# Altium footprint library Udemy_Library.PcbLib: 38 footprints (part 2 of 3)
Each footprint in its own frame and in the unit in brackets; x right, y up, seen from the top. Pads: shape width x height; smd on the part's side, far side on the other; paste and mask are expansions set on the pad; w line width, h text height; cw(c..) or ccw(c..) is an arc to the next point about the centre after c.
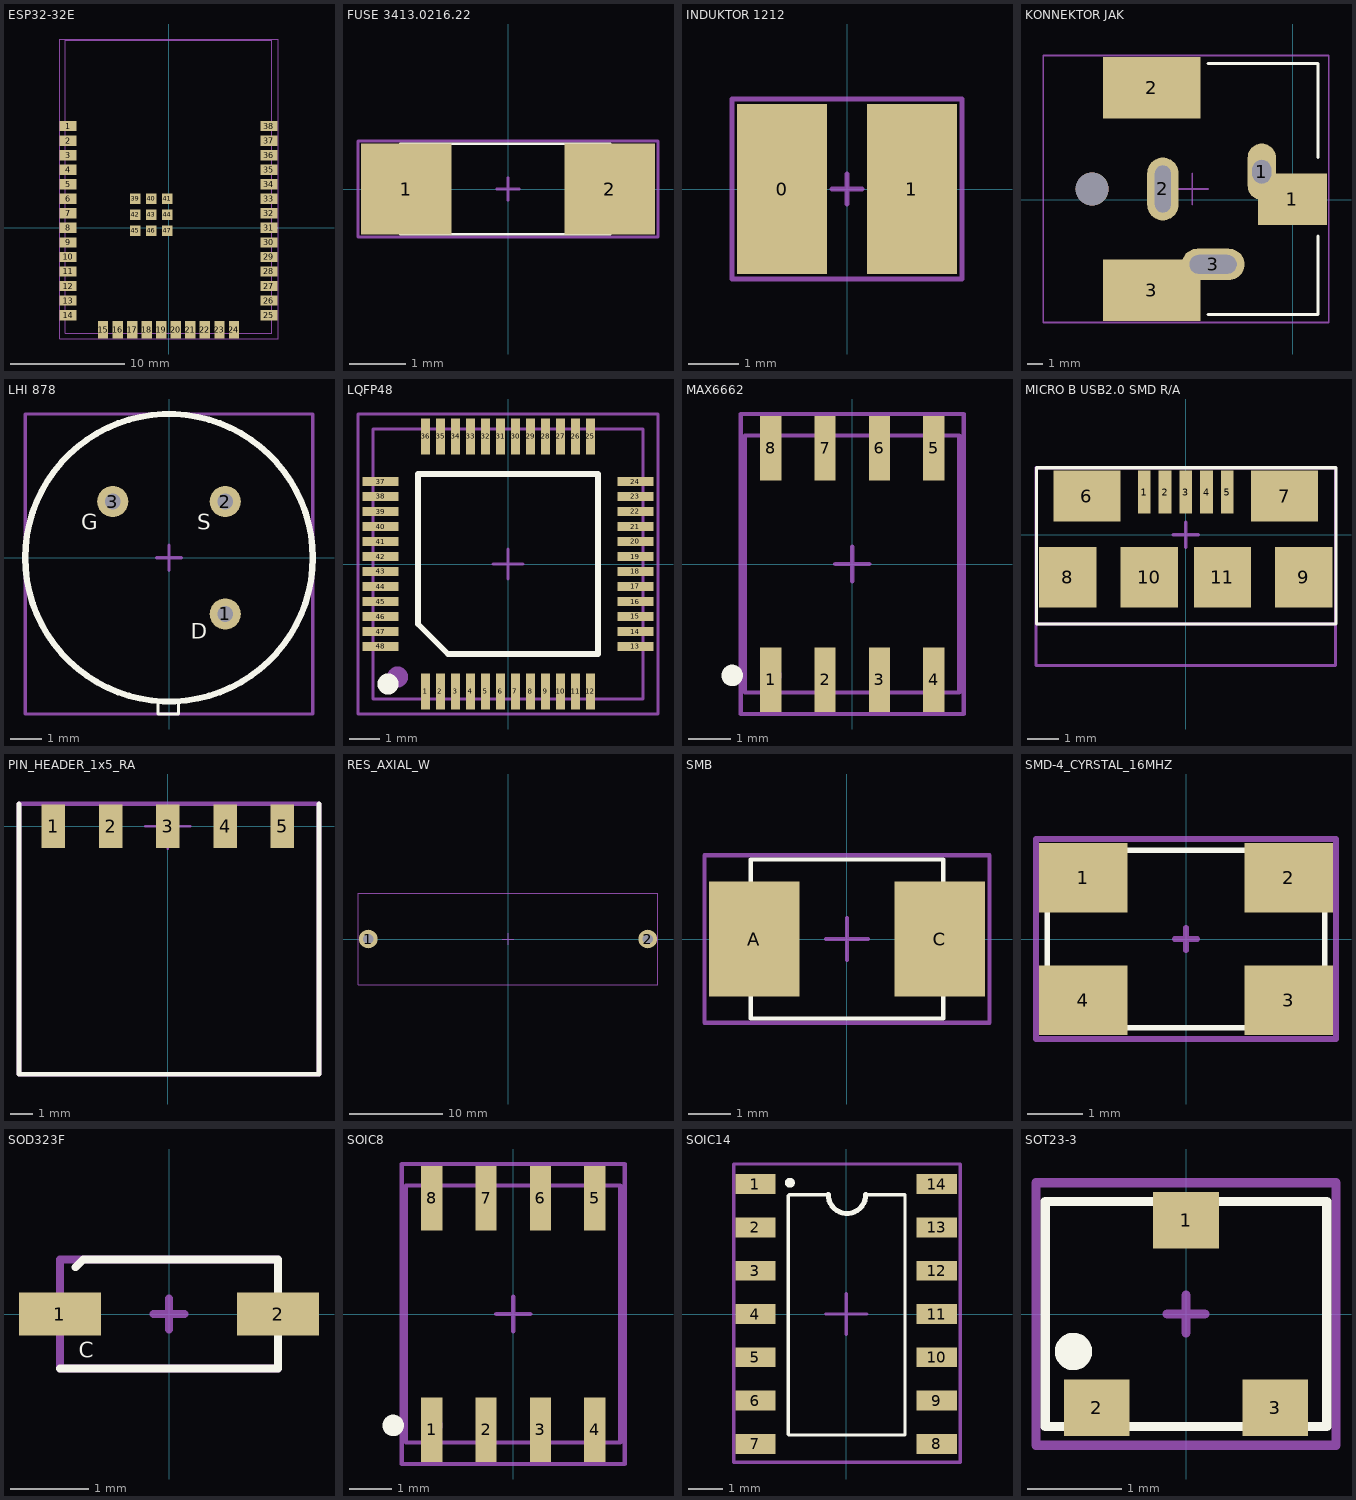
[diagram p1: the footprints below, top view; thin cyan lines are the x and y axes]

## ESP32-32E [mm]
pads (47):
  rect 1.5x0.9 smd mask+0.05: 1(-8.765,8.895) 2(-8.765,7.625) 3(-8.765,6.355) 4(-8.765,5.085) 5(-8.765,3.815) 6(-8.765,2.545) 7(-8.765,1.275) 8(-8.765,0.005) 9(-8.765,-1.265) 10(-8.765,-2.535) 11(-8.765,-3.805) 12(-8.765,-5.075) 13(-8.765,-6.345) 14(-8.765,-7.615) 25(8.765,-7.615) 26(8.765,-6.345) 27(8.765,-5.075) 28(8.765,-3.805) 29(8.765,-2.535) 30(8.765,-1.265) 31(8.765,0.005) 32(8.765,1.275) 33(8.765,2.545) 34(8.765,3.815) 35(8.765,5.085) 36(8.765,6.355) 37(8.765,7.625) 38(8.765,8.895)
  rect 0.9x1.5 smd mask+0.05: 15(-5.715,-8.895) 16(-4.445,-8.895) 17(-3.175,-8.895) 18(-1.905,-8.895) 19(-0.635,-8.895) 20(0.635,-8.895) 21(1.905,-8.895) 22(3.175,-8.895) 23(4.445,-8.895) 24(5.715,-8.895)
  rect 0.9x0.9 smd mask+0.05: 39(-2.918,2.545) 40(-1.518,2.545) 41(-0.118,2.545) 42(-2.918,1.145) 43(-1.518,1.145) 44(-0.118,1.145) 45(-2.918,-0.255) 46(-1.518,-0.255) 47(-0.118,-0.255)
Top 3D Body:
  lines w0.1: -9,-9.2 9,-9.2 9,16.4 -9,16.4 -9,-9.1 -9,-9.2
Top Component Center:
  lines w0.1: 9.6,16.5 9.6,-9.7 -9.5,-9.7 -9.5,16.5 9.6,16.5 ; 9.6,16.5 9.6,16.5
Top Designator:
  lines w0.1: 9.6,16.5 9.6,16.5 ; 9.6,16.5 9.6,-9.7 -9.5,-9.7 -9.5,16.5 9.6,16.5
  text "d.Designator" at -6.8,1.708 h1.52
3D body "ESP32-WROOM-32E.step": height 3.45, standoff 0, extent -9,-9.15 9,16.35

## FUSE 3413.0216.22 [mm]
pads (2):
  rect 1.6x1.6 smd mask+0.05: 1(-1.8,0) 2(1.8,0)
Top Overlay:
  lines w0.05: -1.9,-0.8 -1.9,0.8 1.8,0.8 1.8,-0.8 -1.9,-0.8
Top Component Center:
  lines w0.05: -0.2,0 0.2,0 ; 0,-0.2 0,0.2 ; -2.65,-0.85 -2.65,0.85 2.65,0.85 2.65,-0.85 -2.65,-0.85
Top Designator:
  lines w0.05: -2.65,-0.85 -2.65,0.85 2.65,0.85 2.65,-0.85 -2.65,-0.85
3D body "FUS1206_24N_SCH.step": height 0.61, standoff 0, extent -1.6,-0.8 1.6,0.8

## INDUKTOR 1212 [mm]
pads (2):
  rect 1.8x3.4 smd mask+0.05: 0(-1.3,0) 1(1.3,0)
Top Component Center:
  lines w0.1: -0.3,0 0.3,0 ; 0,-0.3 0,0.3 ; -2.3,-1.8 -2.3,1.8 2.3,1.8 2.3,-1.8 -2.3,-1.8
Top Designator:
  lines w0.1: -2.3,-1.8 -2.3,1.8 2.3,1.8 2.3,-1.8 -2.3,-1.8
  text "d.Designator" at -0.9,-0.367 h0.4
3D body "78438335010_Download_STP_WE-MAIA-3015_rev1.stp": height 1.25, standoff 0.05, extent -1.5,-1.5 1.5,1.5

## KONNEKTOR JAK [mm]
pads (7):
  oval 1.8x3.6 hole 1.2 slot 1.5 at 90 deg: 1(-1.975,1.8)
  rect 4.4x3.3 smd: 1(-0.025,0.05)
  rect 6.2x3.9 smd: 2(-8.975,7.15) 3(-8.975,-5.75)
  oval 2x4 hole 1 slot 3 at 90 deg: 2(-8.275,0.7)
  oval 4x2 hole 1.2 slot 3 at 0 deg: 3(-5.075,-4.1)
  round 2.1 hole 2.1 unplated: ""(-12.775,0.7)
Top Overlay:
  lines w0.2: -5.4,-7.3 1.6,-7.3 1.6,-2.3 ; -5.4,8.7 1.6,8.7 1.6,2.7
Top Component Center:
  lines w0.1: -7.4,0.7 -5.4,0.7 ; -6.4,-0.3 -6.4,1.7 ; -15.9,-7.8 -15.9,9.2 -12.4,9.2 2.3,9.2 2.3,-7.8 -15.9,-7.8
Top Designator:
  lines w0.1: -15.9,-7.8 -15.9,9.2 -12.4,9.2 2.3,9.2 2.3,-7.8 -15.9,-7.8
  text "'.Designator'" at -12.146,0.462 h1.52
3D body "CUI_DEVICES_PJ-037AH-SMT-TR.step": height 11.1, standoff -3.3, extent -15.875,-7.05 1.225,8.15

## LHI 878 [mm]
pads (3):
  round 1 hole 0.5 mask+0.05: 1(1.8,-1.8) 2(1.8,1.8) 3(-1.8,1.8)
Top Overlay:
  circle w0.2: c0,0 r4.6
  lines w0.1: -0.35,-4.55 -0.35,-4.75 -0.35,-5 0.3,-5 0.3,-4.6
  text "G" at -2.8,0.9 h0.5
  text "S" at 0.9,0.9 h0.5
  text "D" at 0.7,-2.6 h0.5
Top Component Center:
  lines w0.1: -0.4,0 0.4,0 ; 0,-0.4 0,0.4 ; -4.6,-5 -4.6,4.6 4.6,4.6 4.6,-5 -4.6,-5
Top Designator:
  lines w0.1: -4.6,-5 4.6,-5 4.6,4.6 -4.6,4.6 -4.6,-5
3D body "LHI878.step": height 4.3, standoff -2.7, extent -4.6,-5.029 4.6,4.6

## LQFP48 [mm] "7 x 7 mm"
pads (48):
  rect 0.3x1.2 smd mask+0.05: 1(-2.75,-4.25) 2(-2.25,-4.25) 3(-1.75,-4.25) 4(-1.25,-4.25) 5(-0.75,-4.25) 6(-0.25,-4.25) 7(0.25,-4.25) 8(0.75,-4.25) 9(1.25,-4.25) 10(1.75,-4.25) 11(2.25,-4.25) 12(2.75,-4.25) 25(2.75,4.25) 26(2.25,4.25) 27(1.75,4.25) 28(1.25,4.25) 29(0.75,4.25) 30(0.25,4.25) 31(-0.25,4.25) 32(-0.75,4.25) 33(-1.25,4.25) 34(-1.75,4.25) 35(-2.25,4.25) 36(-2.75,4.25)
  rect 1.2x0.3 smd mask+0.05: 13(4.25,-2.75) 14(4.25,-2.25) 15(4.25,-1.75) 16(4.25,-1.25) 17(4.25,-0.75) 18(4.25,-0.25) 19(4.25,0.25) 20(4.25,0.75) 21(4.25,1.25) 22(4.25,1.75) 23(4.25,2.25) 24(4.25,2.75) 37(-4.25,2.75) 38(-4.25,2.25) 39(-4.25,1.75) 40(-4.25,1.25) 41(-4.25,0.75) 42(-4.25,0.25) 43(-4.25,-0.25) 44(-4.25,-0.75) 45(-4.25,-1.25) 46(-4.25,-1.75) 47(-4.25,-2.25) 48(-4.25,-2.75)
Top Overlay:
  circle w0.5: c-4,-4 r0.1
  lines w0.2: -3,-2 -2,-3 3,-3 3,3 -3,3 -3,-2
Top 3D Body:
  circle w0.5: c-3.681,-3.766 r0.1
  lines w0.1: -4.5,-4.5 4.5,-4.5 4.5,4.5 -4.5,4.5 -4.5,-4.5
Top Component Center:
  lines w0.1: -0.5,0 0.5,0 ; 0,-0.5 0,0.5 ; -5,-5 5,-5 5,5 -5,5 -5,-5
Top Designator:
  text ".Designator" at -1.118,-0.508 h1.52
3D body "User Library-P-LQFP48-7x7-0_50.step": height 1.43, standoff -0.02, extent -4.5,-4.5 4.5,4.5

## MAX6662 [mm]
pads (8):
  rect 0.5x1.5 smd mask+0.05: 1(-1.905,-2.7) 2(-0.635,-2.7) 3(0.635,-2.7) 4(1.905,-2.7) 5(1.905,2.7) 6(0.635,2.7) 7(-0.635,2.7) 8(-1.905,2.7)
Top Overlay:
  circle w0.3: c-2.8,-2.6 r0.1
Top 3D Body:
  circle w0.3: c-1.9,-2.6 r0.1
  lines w0.1: -2.5,-3 -2.5,3 2.5,3 2.5,-3 -2.5,-3
Top Component Center:
  lines w0.1: -0.4,0 0.4,0 ; 0,-0.4 0,0.4 ; -2.6,-3.5 -2.6,3.5 ; -2.6,-3.5 -2.6,3.5 ; -2.6,-3.5 2.6,-3.5 ; -2.6,-3.5 2.6,-3.5 ; -2.6,3.5 2.6,3.5 ; -2.6,3.5 2.6,3.5 ; 2.6,-3.5 2.6,3.5 ; 2.6,-3.5 2.6,3.5
Top Designator:
  lines w0.1: -2.6,-3.5 -2.6,3.5 ; -2.6,-3.5 2.6,-3.5 ; -2.6,-3.5 -2.6,3.5 ; -2.6,-3.5 2.6,-3.5 ; -2.6,3.5 2.6,3.5 ; -2.6,3.5 2.6,3.5 ; 2.6,-3.5 2.6,3.5 ; 2.6,-3.5 2.6,3.5
  text "d.Designator" at -2.2,-0.233 h0.5
3D body "SOIC-8-1.step": height 1.75, standoff 0, extent -2.45,-3 2.45,3

## MICRO B USB2.0 SMD R/A [mm]
pads (11):
  rect 0.4x1.35 smd mask+0.05: 1(-1.3,1.338) 2(-0.65,1.338) 3(0,1.338) 4(0.65,1.338) 5(1.3,1.338)
  rect 2.1x1.6 smd mask+0.05: 6(-3.1,1.213) 7(3.1,1.213)
  rect 1.8x1.9 smd mask+0.05: 8(-3.7,-1.338) 9(3.7,-1.338) 10(-1.15,-1.338) 11(1.15,-1.338)
Top Overlay:
  lines w0.1: -4.687,-2.8 -4.687,2.1 4.713,2.1 4.713,-2.8 1.063,-2.8 -1.037,-2.8 -1.625,-2.8 -2.8,-2.8 -4.687,-2.8
Top Component Center:
  lines w0.1: -0.4,0 0.4,0 ; 0,-0.4 0,0.4 ; -4.7,-4.1 4.7,-4.1 4.7,2.1 -4.7,2.1 -4.7,-4.1
Top Designator:
  lines w0.1: -4.7,-2.8 -4.7,2.1 4.7,2.1 4.7,-2.8 1.05,-2.8 -1.05,-2.8 -1.637,-2.8 -2.813,-2.8 -4.7,-2.8
  text "d.Designator" at 1,0.1 h0.3
3D body "usb_b_10118192-0001LF.step": height 2.7, standoff -0.09, extent -3.955,-4.059 3.956,1.608

## PIN_HEADER_1x5_RA [mm]
pads (5):
  rect 1.04x1.91 smd mask+0.05: 1(-5.08,0) 2(-2.54,0) 3(0,0) 4(2.54,0) 5(5.08,0)
Top Overlay:
  lines w0.2: -6.6,1 -6.6,-11 6.7,-11 6.7,1
Top Component Center:
  lines w0.1: -1,0 1,0 ; 0,-1 0,1 0.05,1
  lines w0.2: -6.6,-11 -6.6,1 6.7,1 6.7,-11 -6.6,-11
Top Designator:
  lines w0.2: -6.6,-11 -6.6,1 6.7,1 6.7,-11 -6.6,-11
  text "d.Designator" at -3.6,-5.067 h0.7
3D body "SMH-105-02-X-S.step": height 2.51, standoff 0.09, extent -6.604,-11.009 6.604,0.929

## RES_AXIAL_W [mm]
pads (2):
  round 2 hole 1.1 mask+0.05: 1(-15,0) 2(15,0)
Top Component Center:
  lines w0.1: -0.6,0 0.6,0 ; 0,-0.6 0,0.6 0,0 ; -16.1,-4.9 -16.1,4.9 16.1,4.9 16.1,-4.9 8.075,-4.9 8.025,-4.9 -8.025,-4.9 -16.1,-4.9
Top Designator:
  lines w0.1: -16.1,-4.9 -8.025,-4.9 8.025,-4.9 8.075,-4.9 16.1,-4.9 16.1,4.9 -16.1,4.9 -16.1,-4.9
  text "d.Designator" at -5.8,-0.592 h1.52
3D body: height 9.65, standoff 0, extent -11,-4.825 11,4.825
3D body: height 5, standoff -4, extent 14.603,-0.399 15.4,0.399
3D body: height 5, standoff -4, extent -15.397,-0.399 -14.6,0.399
3D body: height 5.4, standoff 4.6, extent -15.25,-0.4 -9.25,0.398
3D body: height 5.4, standoff 4.6, extent 9.25,-0.4 15.25,0.397

## SMB [mm]
pads (2):
  rect 2.159x2.743 smd mask+0.05: A(-2.21,0) C(2.21,0)
Top Overlay:
  lines w0.1: -2.3,-1.9 -2.3,1.9 2.3,1.9 2.3,-1.9 -2.3,-1.9
Top Component Center:
  lines w0.1: -0.5,0 0.5,0 ; 0,-0.5 0,0.5 ; -3.4,-2 3.4,-2 3.4,2 -3.4,2 -3.4,-2
Top Designator:
  lines w0.1: -3.4,-2 -3.4,2 3.4,2 3.4,-2 -3.4,-2
  text "d.Designator" at -1.5,-0.367 h0.4
3D body "SMB_ONS.step": height 2.51, standoff 0.05, extent -2.286,-1.905 2.286,1.905

## SMD-4_CYRSTAL_16MHZ [mm]
pads (4):
  rect 1.6x1.25 smd mask+0.05: 1(-1.85,1.1) 2(1.85,1.1) 3(1.85,-1.1) 4(-1.85,-1.1)
Top Overlay:
  lines w0.1: -2.5,-1.6 2.5,-1.6 2.5,1.6 -2.5,1.6 -2.5,-1.6
Top Component Center:
  lines w0.1: -0.2,0 0.2,0 ; 0,-0.2 0,0.2 ; -2.7,-1.8 2.7,-1.8 2.7,1.8 -2.7,1.8 -2.7,-1.8
Top Designator:
  lines w0.1: -2.7,-1.8 2.7,-1.8 2.7,1.8 -2.7,1.8 -2.7,-1.8
  text "d.Designator" at -1.2,0.167 h0.5
3D body "cyrstal_SMD-4_ECS-160-20-30B-TR.STEP": height 0.85, standoff 0, extent -2.5,-1.6 2.5,1.6

## SOD323F [mm]
pads (2):
  rect 1.05x0.55 smd mask+0.05: 1(-1.4,0) 2(1.4,0)
Top Overlay:
  lines w0.1: -1.4,-0.7 1.4,-0.7 1.4,0.7 -1.1,0.7 -1.2,0.6
  text "C" at -1.16,-0.56 h0.2
Top Component Center:
  lines w0.1: -0.2,0 0.2,0 ; 0,-0.2 0,0.2 ; -1.4,-0.7 -1.4,0.7 1.4,0.7 1.4,-0.7 -1.4,-0.7
Top Designator:
  lines w0.1: -1.4,-0.7 -1.4,0.7 1.4,0.7 1.4,-0.7 -1.4,-0.7
  text "d.Designator" at -0.6,-0.2 h0.3
3D body "SOD-323F_ONS.step": height 1, standoff 0, extent -1.346,-0.7 1.346,0.646

## SOIC8 [mm]
pads (8):
  rect 0.5x1.5 smd mask+0.05: 1(-1.905,-2.7) 2(-0.635,-2.7) 3(0.635,-2.7) 4(1.905,-2.7) 5(1.905,2.7) 6(0.635,2.7) 7(-0.635,2.7) 8(-1.905,2.7)
Top Overlay:
  circle w0.3: c-2.8,-2.6 r0.1
Top 3D Body:
  circle w0.3: c-1.9,-2.6 r0.1
  lines w0.1: -2.5,-3 2.5,-3 2.5,3 -2.5,3 -2.5,-3
Top Component Center:
  lines w0.1: -0.4,0 0.4,0 ; 0,-0.4 0,0.4 ; -2.6,-3.5 2.6,-3.5 ; -2.6,-3.5 2.6,-3.5 ; -2.6,-3.5 -2.6,3.5 ; -2.6,-3.5 -2.6,3.5 ; -2.6,3.5 2.6,3.5 ; -2.6,3.5 2.6,3.5 ; 2.6,-3.5 2.6,3.5 ; 2.6,-3.5 2.6,3.5
Top Designator:
  lines w0.1: -2.6,-3.5 2.6,-3.5 ; -2.6,-3.5 -2.6,3.5 ; -2.6,-3.5 2.6,-3.5 ; -2.6,-3.5 -2.6,3.5 ; -2.6,3.5 2.6,3.5 ; -2.6,3.5 2.6,3.5 ; 2.6,-3.5 2.6,3.5 ; 2.6,-3.5 2.6,3.5
  text "d.Designator" at -2.2,-0.233 h0.5
3D body "SOIC-8-1.step": height 1.75, standoff 0, extent -2.45,-3 2.45,3

## SOIC14 [mm]
pads (14):
  rect 1.18x0.58 smd mask+0.05: 1(-2.66,3.81) 2(-2.66,2.54) 3(-2.66,1.27) 4(-2.66,0) 5(-2.66,-1.27) 6(-2.66,-2.54) 7(-2.66,-3.81) 8(2.66,-3.81) 9(2.66,-2.54) 10(2.66,-1.27) 11(2.66,0) 12(2.66,1.27) 13(2.66,2.54) 14(2.66,3.81)
Top Overlay:
  circle w0.15: c-1.65,3.85 r0.071
  lines w0.1: -1.697,3.477 -1.697,-3.524 -1.67,-3.55 1.725,-3.55 1.725,3.5 0.575,3.5 ; -1.673,3.5 -0.525,3.5
  lines w0.15: -0.525,3.5 ccw(c0.025,3.5) 0.575,3.5
Top Component Center:
  lines w0.1: -0.6,0 0.6,0 ; 0,-0.6 0,0.6 ; -3.3,-4.35 3.3,-4.35 3.35,-4.35 3.35,4.4 -3.3,4.4 -3.3,-4.3 -3.3,-4.35
Top Designator:
  lines w0.1: -3.3,-4.35 3.3,-4.35 3.35,-4.35 3.35,4.4 -3.3,4.4 -3.3,-4.3 -3.3,-4.35
  text "d.Designator" at -1.25,-1.717 h0.4
3D body "SOIC-14_NB_ONS.step": height 1.76, standoff 0, extent -3.099,-4.331 3.099,4.331

## SOT23-3 [mm]
pads (3):
  rect 0.7x0.6 smd mask+0.05: 1(0,1) 2(-0.95,-1) 3(0.95,-1)
Top Overlay:
  circle w0.2: c-1.2,-0.4 r0.1
  lines w0.1: -1.5,-1.2 -1.5,1.2 1.5,1.2 1.5,-1.2 -1.5,-1.2
Top Component Center:
  lines w0.1: -0.2,0 0.2,0 ; 0,-0.2 0,0.2 ; -1.6,-1.4 -1.6,1.4 1.6,1.4 1.6,-1.4 -1.6,-1.4
Top Designator:
  lines w0.1: -1.6,-1.4 1.6,-1.4 1.6,1.4 -1.6,1.4 -1.6,-1.4
  text "d.Designator" at -0.6,0.1 h0.3
3D body "SOT23-3_MMBT3904-7-F.STEP": height 1.12, standoff 0, extent -1.5,-1.21 1.5,1.21